# Altium footprint library PcbLib1.PcbLib: 10 footprints
Each footprint in its own frame and in the unit in brackets; x right, y up, seen from the top. Pads: shape width x height; smd on the part's side, far side on the other; paste and mask are expansions set on the pad; w line width, h text height; cw(c..) or ccw(c..) is an arc to the next point about the centre after c.
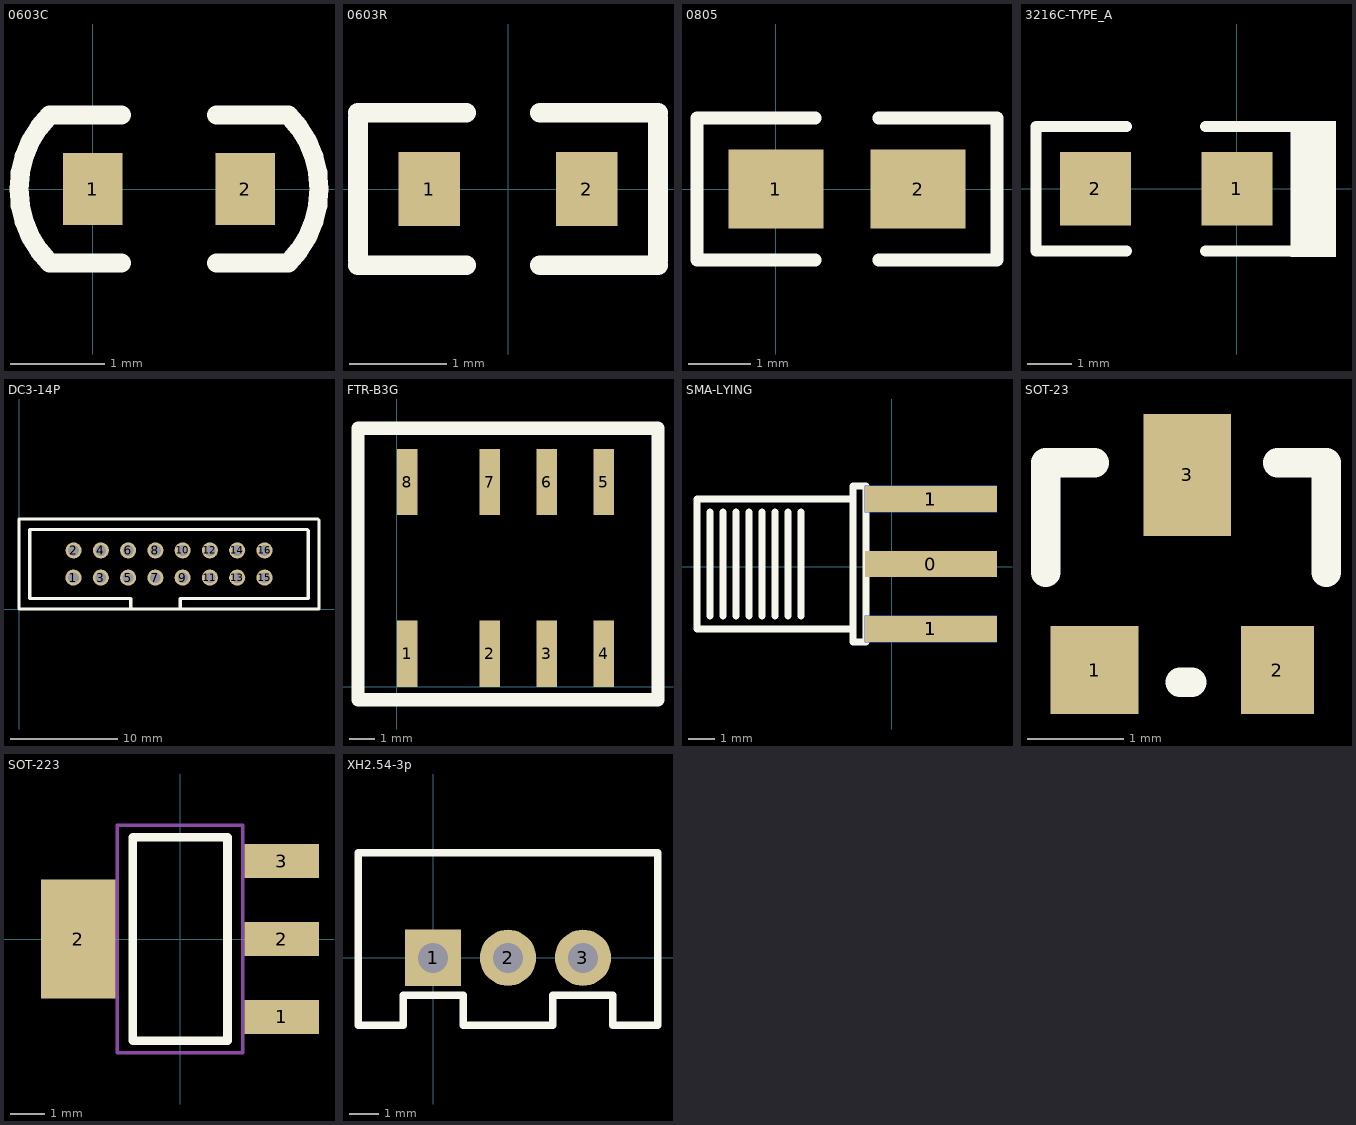
[diagram p0: the footprints below, top view; thin cyan lines are the x and y axes]

## 0603C [mil]
pads (2):
  rect 25x30 smd: 1(0,0) 2(64,0)
Top Overlay:
  lines w8: 12,-31 -18,-31 cw(c13,0) -18,31 12,31 ; 52,-31 82,-31 ccw(c51,0) 82,31 52,31

## 0603R [mil]
pads (2):
  rect 25x30 smd: 1(-32,0) 2(32,0)
Top Overlay:
  lines w8: -61,-31 -17,-31 ; -61,-29 -61,29 ; -61,31 -17,31 ; 13,-31 61,-31 ; 13,31 61,31 ; 61,-29 61,29

## 0805 [mil]
pads (2):
  rect 60x50 smd: 1(0,0) 2(90,0)
Top Overlay:
  lines w8: 25,-45 -50,-45 -50,45 25,45 ; 65,-45 140,-45 140,45 65,45

## 3216C-TYPE_A [mm]
pads (2):
  rect 1.6x1.65 smd: 1(0,0) 2(-3.175,0)
Top Overlay:
  rectangle: 1.206,-1.537 2.222,1.524
  lines w0.254: -2.476,-1.397 -4.508,-1.397 -4.508,1.397 -2.476,1.397 ; -0.699,-1.397 1.206,-1.397 ; -0.699,1.397 1.206,1.397

## DC3-14P [mm]
pads (16):
  round 1.5 hole 1: 1(5.07,2.93) 2(5.08,5.461) 3(7.61,2.93) 4(7.618,5.461) 5(10.15,2.93) 6(10.157,5.461) 7(12.69,2.93) 8(12.695,5.461) 9(15.23,2.93) 10(15.233,5.461) 11(17.77,2.93) 12(17.772,5.461) 13(20.31,2.93) 14(20.31,5.461) 15(22.85,2.93) 16(22.85,5.461)
Top Overlay:
  lines w0.3: 10.4,0.014 10.4,1 1,1 1,7.4 24.38,7.4 26.831,7.4 ; 15,0.014 15,1 24.38,1 26.92,1 26.92,7.311 ; 27.795,8.4 25.38,8.4 0,8.4 0,0 25.38,0 27.92,0 27.92,8.275

## FTR-B3G [mm]
pads (8):
  rect 0.8x2.56 smd: 1(0.4,1.28) 2(3.6,1.28) 3(5.8,1.28) 4(8,1.28) 5(8,7.92) 6(5.8,7.92) 7(3.6,7.92) 8(0.4,7.92)
Top Overlay:
  lines w0.508: -1.5,-0.5 10.1,-0.5 10.1,10 -1.5,10 -1.5,-0.5

## SMA-LYING [mm]
height 8.2
pads (5):
  rect 5.08x1.016 smd: 0(1.5,0.1) 1(1.5,-2.4) 1(1.5,2.6)
  rect 5.08x1.016 smd far side: 1(1.5,-2.4) 1(1.5,2.6)
Top Overlay:
  lines w0.254: -7,-1.9 -7,2.1 ; -6.5,-1.9 -6.5,2.1 ; -6,-1.9 -6,2.1 ; -5.5,-1.9 -5.5,2.1 ; -5,-1.9 -5,2.1 ; -4.5,-1.9 -4.5,2.1 ; -4,-1.9 -4,-1.4 -4,2.1 ; -3.5,-1.9 -3.5,2.1 ; -1.5,-2.4 -7.5,-2.4 -7.5,2.6 -1.5,2.6 ; -1.5,-2.9 -1,-2.9 -1,-2.4 -1,3.1 -1.5,3.1 -1.5,-2.9

## SOT-23 [mil]
pads (3):
  rect 36x36 smd: 1(47.76,-120.28)
  rect 30x36 smd: 2(122.75,-120.28)
  rect 36x50 smd: 3(85.75,-40.28)
Top Overlay:
  lines w12: 27.75,-80.28 27.75,-35.28 47.76,-35.28 ; 82.75,-125.28 87.75,-125.28 ; 122.75,-35.28 142.75,-35.28 142.75,-80.28

## SOT-223 [mm]
pads (4):
  rect 2.2x1 smd: 1(3,-2.3) 2(3,0) 3(3,2.3)
  rect 2.2x3.5 smd: 2(-3,0)
Top Overlay:
  lines w0.254: -1.4,-3 -1.4,3 1.4,3 1.4,-3 -1.4,-3
Mechanical 13:
  lines w0.1: -1.85,-3.35 1.85,-3.35 1.85,3.35 -1.85,3.35 -1.85,-3.35
3D body "TO-223.STEP": height 1.64, standoff -0.04, extent -3.49,-3.242 3.49,3.243

## XH2.54-3p [mil]
pads (3):
  rect 75x75 hole 40: 1(0,0)
  round 75 hole 40: 2(100,0) 3(200,0)
Top Overlay:
  lines w10: -100,-90 -40,-90 -40,-50 40,-50 40,-90 160,-90 160,-50 240,-50 240,-90 300,-90 300,140 -100,140 -100,-90